# Altium schematic symbol library SSQ-106-03-G-S.SchLib: 1 symbol
Pins are listed as number, name and electrical type; pins without a type are passive.

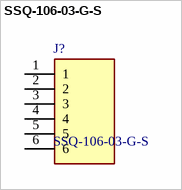
[diagram p0: symbol SSQ-106-03-G-S]

## SSQ-106-03-G-S
designator J?
6 Position, .100&quot; Tiger Buy&trade; Socket Strip, Square Tail, Single Row; Manufacturer_Name: SAMTEC; Geometry.Height: 8.51mm; Mouser Part Number: 200-SSQ10603GS; Mouser Price/Stock: https://www.mouser.co.uk/ProductDetail/Samtec/SSQ-106-03-G-S?qs=rU5fayqh%252BE1Zh2ics08F5Q%3D%3D; Manufacturer_Part_Number: SSQ-106-03-G-S; Datasheet Link: http://suddendocs.samtec.com/prints/ssq-1xx-xx-xxx-x-xx-xxx-xx-x-mkt.pdf
footprint RHDR6W64P254_1X6_1575X241X851P
pins: 1, 2, 3, 4, 5, 6